# EAGLE library part VL53L0X (library BottleSumo Library)
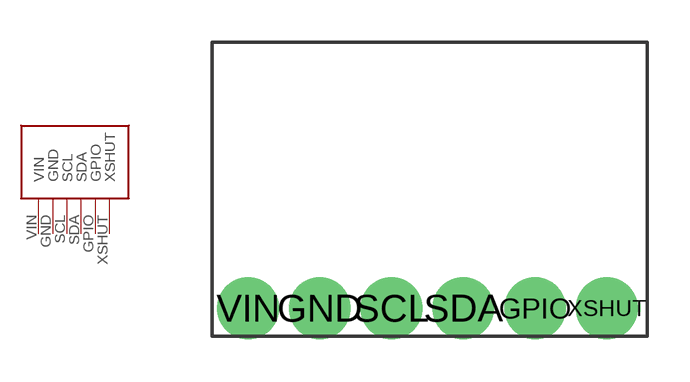
[diagram p3: symbol with the pads of VL53L0X; footprint VL53L0X]

Designator prefix -

## VL53L0X  [VL53L0X]
GND  GND
GPIO  GPIO
SCL  SCL
SDA  SDA
VIN  VIN
XSHUT  XSHUT

## Footprint VL53L0X (pad centres in mm)
drill 1 pad 2.184: GND 3.81,-9.411; GPIO 11.43,-9.411; SCL 6.35,-9.411; SDA 8.89,-9.411; VIN 1.27,-9.411; XSHUT 13.97,-9.411